# EAGLE library part 50238-020 (library con-aces-50238-series)
ACES CONNECTORS 50238 SERIES ACES Connecors 50238 <https://www.acesconn.com/tw/series/50238-xxxxx-xxx/1290>
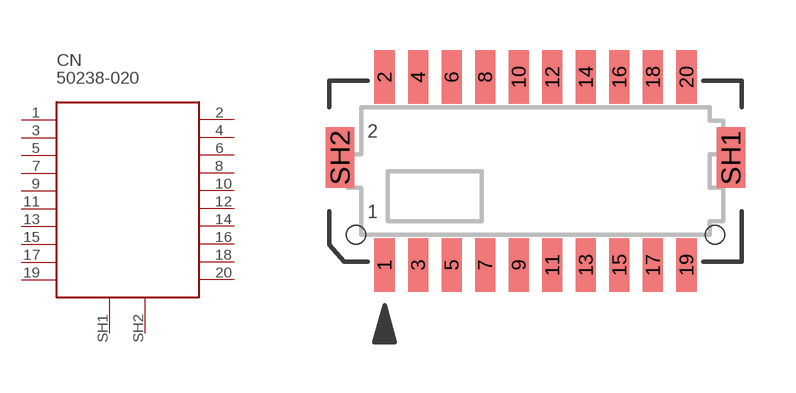
[diagram p6: symbol with the pads of 50238-020; footprint 50238-020]

Designator prefix CN

## 50238-020  [50238-020]
1  1
2  2
3  3
4  4
5  5
6  6
7  7
8  8
9  9
10  10
11  11
12  12
13  13
14  14
15  15
16  16
17  17
18  18
19  19
20  20
SH1  SH1
SH2  SH2

## Footprint 50238-020 (pad centres in mm)
smd 0.6 x 1.6: 1 -4.5,-2.8; 2 -4.5,2.8; 3 -3.5,-2.8; 4 -3.5,2.8; 5 -2.5,-2.8; 6 -2.5,2.8; 7 -1.5,-2.8; 8 -1.5,2.8; 9 -0.5,-2.8; 10 -0.5,2.8; 11 0.5,-2.8; 12 0.5,2.8; 13 1.5,-2.8; 14 1.5,2.8; 15 2.5,-2.8; 16 2.5,2.8; 17 3.5,-2.8; 18 3.5,2.8; 19 4.5,-2.8; 20 4.5,2.8
smd 0.85 x 1.8: SH1 5.825,0.4; SH2 -5.825,0.4
hole 0.55 at -5.35,-1.9
hole 0.55 at 5.35,-1.9